# Altium footprint library MF-SWITCHES.PcbLib: 2 footprints
Each footprint in its own frame and in the unit in brackets; x right, y up, seen from the top. Pads: shape width x height; smd on the part's side, far side on the other; paste and mask are expansions set on the pad; w line width, h text height; cw(c..) or ccw(c..) is an arc to the next point about the centre after c.
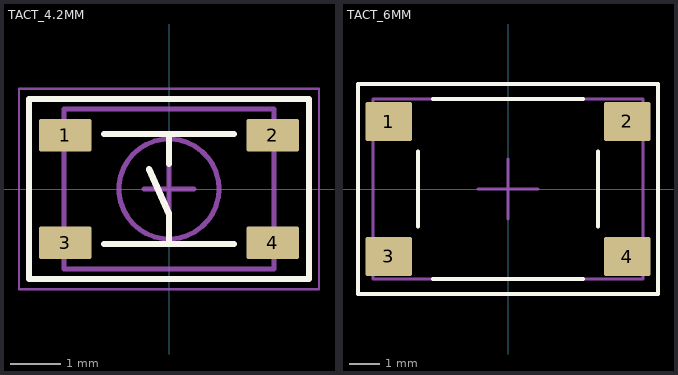
[diagram p0: the footprints below, top view; thin cyan lines are the x and y axes]

## TACT_4.2MM [mm] "Tactile Switch 4.2MM"
height 2.5
pads (4):
  rrect10% 1.05x0.65 smd: 1(-2.075,1.075) 2(2.075,1.075) 3(-2.075,-1.075) 4(2.075,-1.075)
Top Overlay:
  lines w0.127: -1.3,-1.1 1.3,-1.1 ; -1.3,1.1 1.3,1.1 ; -0.4,0.4 0,-0.5 0,-1.1 ; 0,0.5 0,1.1 ; -2.8,-1.8 2.8,-1.8 2.8,1.8 -2.8,1.8 -2.8,-1.8
Top Assembly:
  circle w0.1: c0,0 r1
  lines w0.1: -2.1,-1.6 -2.1,1.6 2.1,1.6 2.1,-1.6 -2.1,-1.6
Top Courtyard:
  lines w0.05: -3,-2 3,-2 3,2 -3,2 -3,-2
  lines w0.1: -0.5,0 0.5,0 ; 0,-0.5 0,0.5
3D body "PTS810SJG250SMTRLFS.x_t": height 2.51, standoff 0.01, extent -2.287,-1.6 2.288,1.6

## TACT_6MM [mm] "Tactile Switch 6MM"
height 4.3
pads (4):
  rrect10% 1.55x1.3 smd: 1(-3.975,2.25) 2(3.975,2.25) 3(-3.975,-2.25) 4(3.975,-2.25)
Top Overlay:
  lines w0.127: -3,-1.25 -3,1.25 ; -2.5,-3.001 2.5,-3.001 ; -2.5,3 2.5,3 ; 3,-1.25 3,1.25 ; -5,-3.5 5,-3.5 5,3.5 -5,3.5 -5,-3.5
Top Assembly:
  lines w0.1: -4.5,-3 4.5,-3 4.5,3 -4.5,3 -4.5,-3
Top Courtyard:
  lines w0.05: -5,-3.5 5,-3.5 5,3.5 -5,3.5 -5,-3.5
  lines w0.1: -1,0 1,0 ; 0,-1 0,1
3D body "PTS645SM43SMTR92LFS.x_t": height 4.31, standoff 0.01, extent -4.5,-3.001 4.5,3